# EAGLE library part TCLAMP0602N (library diode)
TVS ARRAY, SEMTECH
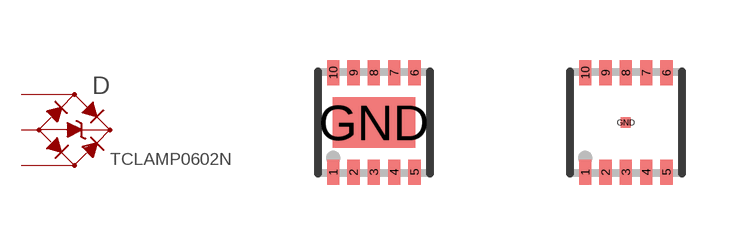
[diagram p8: symbol with the pads of SLP2626P10; footprints SLP2626P10, SLP2626P10_R]

Designator prefix D

## TCLAMP0602N  [SLP2626P10]
1  1  pas
2  2  pas
3  3  pas
8  8  pas
9  9  pas
10  10  pas
GND  CT  pas

## TCLAMP0602N_R  [SLP2626P10_R]
Pads as for SLP2626P10

## Footprint SLP2626P10 (pad centres in mm)
SLP2626P10, SEMTECH
smd 0.305 x 0.635: 1 -1.016,-1.245; 2 -0.508,-1.245; 3 0,-1.245; 4 0.508,-1.245; 5 1.016,-1.245; 6 1.016,1.245; 7 0.508,1.245; 8 0,1.245; 9 -0.508,1.245; 10 -1.016,1.245
smd 2.057 x 1.27: GND 0,0

## Footprint SLP2626P10_R (pad centres in mm)
SLP2626P10, SEMTECH Alternate reflow style package for poly GND fill under part.
smd 0.305 x 0.635: 1 -1.016,-1.245; 2 -0.508,-1.245; 3 0,-1.245; 4 0.508,-1.245; 5 1.016,-1.245; 6 1.016,1.245; 7 0.508,1.245; 8 0,1.245; 9 -0.508,1.245; 10 -1.016,1.245
smd 0.254 x 0.254: GND 0,0